# Altium schematic symbol library Magnetic_Components.SchLib: 7 symbols
Pins are listed as number, name and electrical type; pins without a type are passive.

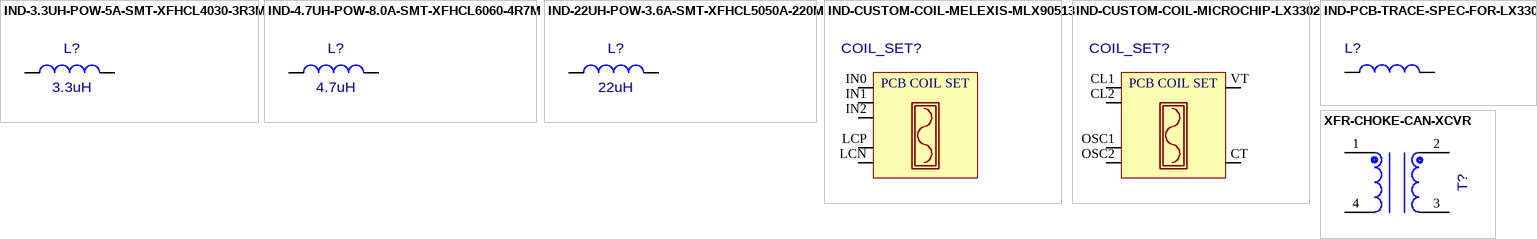
[diagram p0: symbols IND-3.3UH-POW-5A-SMT-XFHCL4030-3R3M to XFR-CHOKE-CAN-XCVR]

## IND-3.3UH-POW-5A-SMT-XFHCL4030-3R3M
designator L?  value 3.3uH  (hidden comment: IND-3.3UH-POW-5A-SMT-XFHCL4030-3R3M)
Inductor, Power, 3.3uH, 5A, SMT; MFG: XFMRs Inc; QPN: 127-001500-0335; Temp: 125C; MFGPN: XFHCL4030-3R3M
footprint IND-4X4-4030 (Inductos foorptint for parts including: Coilcraft XAL4030-332MEC, XFMRS INC XFHCL4030-3R3M)
pins: 1, 2

## IND-4.7UH-POW-8.0A-SMT-XFHCL6060-4R7M
designator L?  value 4.7uH  (hidden comment: IND-4.7UH-POW-8.0A-SMT-XFHCL6060-4R7M)
Inductor, Power, 4.7uH, 8.0A, SMT; MFG: Coilcraft; MFGPN: XAL6060-472MEC; QPN: 127-001500-0475; Temp: 125C
footprint IND-6X6MM-XAL6060 (Inductos foorptint for Coilcraft XFHCL5050A-220M)
pins: 1, 2

## IND-22UH-POW-3.6A-SMT-XFHCL5050A-220M
designator L?  value 22uH  (hidden comment: IND-22UH-POW-3.6A-SMT-XFHCL5050A-220M)
Inductor, Power, 22uH, 3.6A, SMT; QPN: 127-021400-0226; MFG: XFMRs Inc; PCB DECAL: IND/XAL6060-223ME; Temp: 125C; Functional Block: 1; MFGPN: XFHCL5050A-220M
footprint IND-5X5-5050 (Inductos foorptint for parts including: Coilcraft XAL5050-223MEC, and XFMRS INC XFHCL5050A-220M)
pins: 1, 2

## IND-CUSTOM-COIL-MELEXIS-MLX90513
designator COIL_SET?  (value not drawn)
Custom Coill, PCB tracess for MLX90513
footprint CUSTOM-COIL-PXW-MLX90513_V2-3
pins: IN0, IN1, IN2, LCN LCB, LCP
text: PCB COIL SET

## IND-CUSTOM-COIL-MICROCHIP-LX3302
designator COIL_SET?  (value not drawn)
Custom Coill, PCB tracess for LX3302
footprint CUSTOM-COIL-PXW-LX3302
pins: CL1, CL2, CT, OSC1, OSC2, VT
text: PCB COIL SET

## IND-PCB-TRACE-SPEC-FOR-LX3302
designator L?, comment IND-PCB-TRACE-LX3302  (value not drawn)
Inductor, PCB Trace, For LX3302 Sensor; QPN: NO QPN; PCB DECAL: JMP/L3
footprint PCB-TRACE-JUMPER-8MIL
pins: 1, 2

## XFR-CHOKE-CAN-XCVR
designator T?, comment XFR-CHOKE-CAN-XCVRXFR-CHOKE-CAN  (value not drawn)
Common Mode Choke for CAN Bus, 51uH, 200mA; MFG: Laird; MFGPN: CC1812C513R-10; QPN: 127-001104-0516; Temp: 125C
footprint CHOKE-1812-LAIRD-CC1812C513R
pins: 1, 2, 3, 4